# Altium footprint library 28Pins V01.PcbLib: 29 footprints (part 1 of 2)
Each footprint in its own frame and in the unit in brackets; x right, y up, seen from the top. Pads: shape width x height; smd on the part's side, far side on the other; paste and mask are expansions set on the pad; w line width, h text height; cw(c..) or ccw(c..) is an arc to the next point about the centre after c.
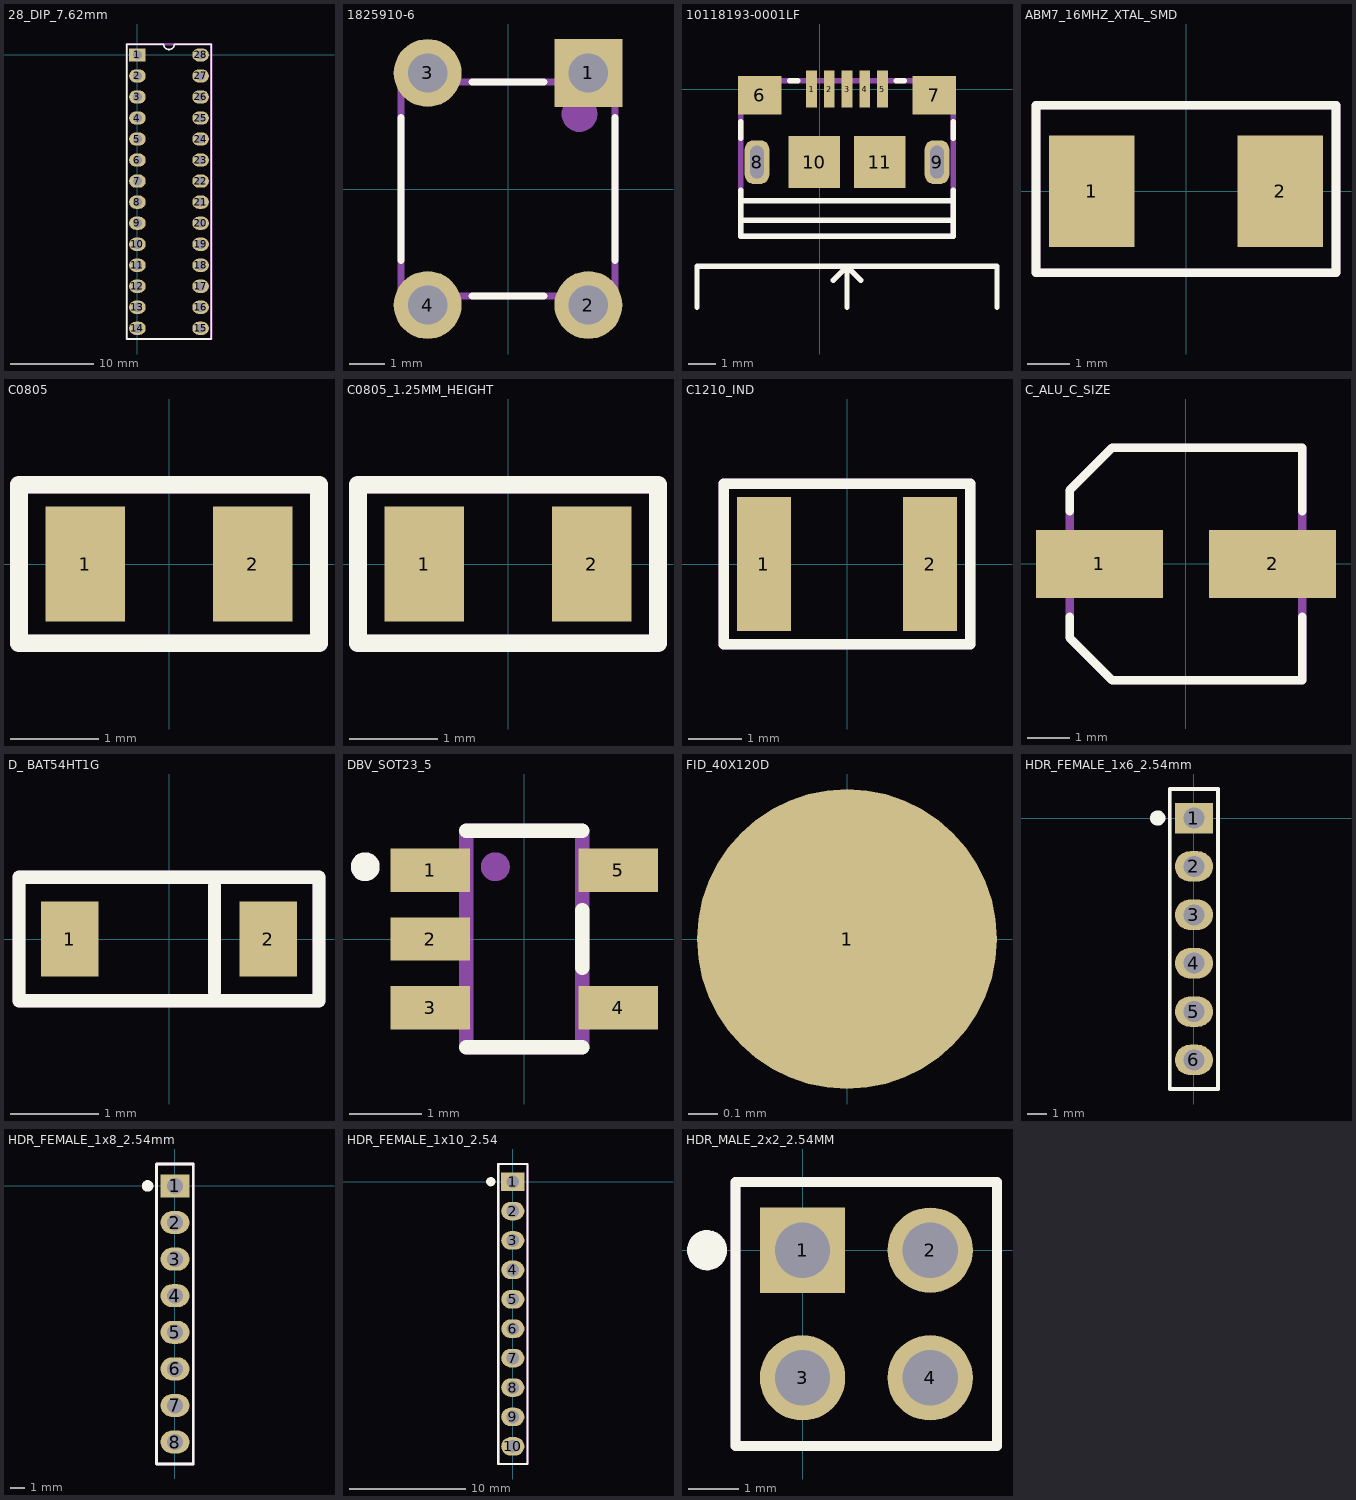
[diagram p0: the footprints below, top view; thin cyan lines are the x and y axes]

## 28-DIP_SCKT_2.54MM [mm]
3D body "dip_28_socket.stp": height 4.2, standoff -3.17, extent -1.24,-34.26 8.86,1.24

## 28_DIP_7.62mm [mm]
pads (28):
  rect 2x1.6 hole 1.1: 1(0,0)
  oval 2x1.6 hole 1.1: 2(0,-2.54) 3(0,-5.08) 4(0,-7.62) 5(0,-10.16) 6(0,-12.7) 7(0,-15.24) 8(0,-17.78) 9(0,-20.32) 10(0,-22.86) 11(0,-25.4) 12(0,-27.94) 13(0,-30.48) 14(0,-33.02) 15(7.62,-33.02) 16(7.62,-30.48) 17(7.62,-27.94) 18(7.62,-25.4) 19(7.62,-22.86) 20(7.62,-20.32) 21(7.62,-17.78) 22(7.62,-15.24) 23(7.62,-12.7) 24(7.62,-10.16) 25(7.62,-7.62) 26(7.62,-5.08) 27(7.62,-2.54) 28(7.62,0)
Top Overlay:
  lines w0.2: -1.29,-34.31 8.91,-34.31 8.91,1.29 4.445,1.29 cw(c3.81,1.29) 3.175,1.29 -1.29,1.29 -1.29,-34.31
Mechanical 29:
  circle w0.5: c0.01,-0.01 r0.2
  lines w0.254: -1.29,-34.31 -1.29,1.29 8.91,1.29 8.91,-34.31 -1.29,-34.31
  text "'.Designator'" at 5.11,-33.51 h3
3D body "dip_28.step": height 7.55, standoff 1.33, extent -0.09,-34.481 7.784,1.461

## 1825910-6 [mm]
pads (4):
  rect 1.9x1.9 hole 1.1: 1(2.25,3.25)
  round 1.9 hole 1.1: 2(2.25,-3.25) 3(-2.25,3.25) 4(-2.25,-3.25)
Top Overlay:
  lines w0.2: -3,-2 -3,2 ; -1,-3 1,-3 ; -1,3 1,3 ; 3,-2 3,2
Mechanical 29:
  circle w0.5: c2,2.1 r0.25
  lines w0.2: -3,-3 -3,3 3,3 3,-3 -3,-3
  text "'.Designator'" at -2.4,-0.9 h1.52
3D body "sw_1825910-6.step": height 5, standoff -3.51, extent -2.995,-3.898 2.995,3.9

## 10118193-0001LF [mm]
pads (11):
  rect 0.4x1.35 smd paste+0 mask+0.05: 1(-0.3,0) 2(0.35,0) 3(1,0) 4(1.65,0) 5(2.3,0)
  rect 1.6x1.4 smd paste+0 mask+0.05: 6(-2.2,-0.225) 7(4.2,-0.225)
  rrect70% 0.9x1.6 hole 0.5 slot 1.2 at 90 deg paste+0 mask+0.05: 8(-2.3,-2.675) 9(4.3,-2.675)
  rect 1.9x1.9 smd paste+0 mask+0.05: 10(-0.2,-2.675) 11(2.2,-2.675)
Top Overlay:
  lines w0.2: -4.5,-8 -4.5,-6.5 6.5,-6.5 6.5,-8 ; -2.9,-4.8 4.9,-4.8 ; -2.9,-4.1 4.9,-4.1 ; -2.9,-3.7 -2.9,-5.4 4.9,-5.4 4.9,-3.7 ; -2.9,-1.8 -2.9,-1.2 ; -1.1,0.3 -0.8,0.3 ; 0.5,-7 1,-6.5 ; 1,-8 1,-6.5 ; 1.5,-7 1,-6.5 ; 2.8,0.3 3.1,0.3 ; 4.9,-1.8 4.9,-1.2 ; 1,-6.5 1,-6.5
Mechanical 29:
  lines w0.2: -2.9,-5.4 4.9,-5.4 4.9,0.3 -2.9,0.3 -2.9,-5.4
  text "'.Designator'" at -2.6,-3.7 h1.52
3D body "usb_micro_female.STEP": height 2.81, standoff -0.79, extent -2.93,-5.41 4.93,0.3

## ABM7_16MHZ_XTAL_SMD [mm]
pads (2):
  rect 2x2.6 smd: 1(-2.2,0) 2(2.2,0)
Top Overlay:
  lines w0.2: -3.5,-1.9 3.5,-1.9 3.5,2 -3.5,2 -3.5,-1.9
Mechanical 29:
  lines w0.2: -3.5,-1.9 -3.5,2 3.5,2 3.5,-1.9 -3.5,-1.9
  text "'.Designator'" at -1.5,-0.5 h1
3D body "ABM7.STEP": height 1.41, standoff 0.01, extent -3,-1.705 2.994,1.8

## C0805 [mm]
pads (2):
  rect 0.9x1.3 smd: 1(-0.95,0) 2(0.95,0)
Top Overlay:
  lines w0.2: -1.7,-0.9 1.7,-0.9 1.7,0.9 -1.7,0.9 -1.7,-0.9
Mechanical 29:
  lines w0.2: -1.7,-0.9 1.7,-0.9 1.7,0.9 -1.7,0.9 -1.7,-0.9
  text "'.Designator'" at -1.7,-0.6 h1
3D body "c0805.STEP": height 1, standoff 0, extent -0.992,-0.625 1.008,0.625

## C0805_1.25MM_HEIGHT [mm]
pads (2):
  rect 0.9x1.3 smd: 1(-0.95,0) 2(0.95,0)
Top Overlay:
  lines w0.2: -1.7,-0.9 -1.7,0.9 1.7,0.9 1.7,-0.9 -1.7,-0.9
Mechanical 29:
  lines w0.2: -1.7,-0.9 -1.7,0.9 1.7,0.9 1.7,-0.9 -1.7,-0.9
  text "'.Designator'" at -1.7,-0.6 h1
3D body "c0805_1.25mm_height.STEP": height 1.45, standoff 0, extent -1,-0.625 1,0.625

## C1210_IND [mm]
pads (2):
  rect 1x2.5 smd: 1(-1.55,0) 2(1.55,0)
Top Overlay:
  lines w0.2: -2.3,-1.5 -2.3,1.5 2.3,1.5 2.3,-1.5 -2.3,-1.5
Mechanical 29:
  lines w0.2: -2.3,-1.5 2.3,-1.5 2.3,1.5 -2.3,1.5 -2.3,-1.5
  text "'.Designator'" at -2,-1 h1
3D body: height 2.7, standoff 0, extent -1.35,-1 1.35,1
3D body: height 2.7, standoff 0, extent 1.35,-1 1.65,1
3D body: height 2.7, standoff 0, extent -1.65,-1 -1.35,1

## C_ALU_C_SIZE [mm]
pads (2):
  rect 3x1.6 smd: 1(-2.05,0) 2(2.05,0)
Top Overlay:
  lines w0.2: -2.75,-1.25 -2.75,-1.75 -1.75,-2.75 2.75,-2.75 2.75,-1.25 ; -2.75,1.25 -2.75,1.75 -1.75,2.75 2.75,2.75 2.75,1.25
Mechanical 29:
  circle w0.5: c-2,0 r0.25
  lines w0.2: -2.75,-1.75 -2.75,1.75 -1.75,2.75 2.75,2.75 2.75,-2.75 -1.75,-2.75 -2.75,-1.75
  text "'.Designator'" at -2.5,-2 h1
3D body "cap_alu_c.step": height 5.41, standoff -0.01, extent -2.95,-2.65 2.95,2.65

## D_ BAT54HT1G [mm]
pads (2):
  rect 0.65x0.85 smd: 1(-1.125,0) 2(1.125,0)
Top Overlay:
  lines w0.15: 0.516,-0.6 0.516,0.6 ; -1.7,-0.7 1.7,-0.7 1.7,0.7 -1.7,0.7 -1.7,-0.7
Mechanical 29:
  lines w0.15: 0.516,-0.6 0.516,0.6 ; -1.7,-0.7 -1.7,0.7 1.7,0.7 1.7,-0.7 -1.7,-0.7
  text "'.Designator'" at -1.778,-0.508 h1
3D body "SOD323.step": height 1.1, standoff 0, extent -1.3,-0.675 1.3,0.675

## DBV_SOT23_5 [mm]
pads (5):
  rect 1.1x0.6 smd mask+0.09: 1(-1.3,0.95) 2(-1.3,0) 3(-1.3,-0.95) 4(1.3,-0.95) 5(1.3,0.95)
Top Overlay:
  circle w0.2: c-2.2,1 r0.1
  lines w0.2: -0.8,-1.5 0.8,-1.5 ; -0.8,1.5 0.8,1.5 ; 0.8,-0.4 0.8,0.4
Mechanical 29:
  circle w0.2: c-0.4,1 r0.1
  lines w0.2: -0.8,-1.5 -0.8,1.5 0.8,1.5 0.8,-1.5 -0.8,-1.5
  text "'.Designator'" at -1,-1.2 h1
3D body "TPS79333DBVR.step": height 1.6, standoff -0.02, extent -1.527,-1.525 1.5,1.525

## FID_40X120D [mil]
pads (1):
  round 40 smd paste-1574.8 mask+40: 1(0,0)

## HDR_FEMALE_1x6_2.54mm [mm]
pads (6):
  rect 2x1.6 hole 1.1: 1(0,0)
  oval 2x1.6 hole 1.1: 2(0,-2.54) 3(0,-5.08) 4(0,-7.62) 5(0,-10.16) 6(0,-12.7)
Top Overlay:
  circle w0.4: c-1.9,0 r0.2
  lines w0.2: -1.27,-14.224 1.27,-14.224 1.27,1.524 -1.27,1.524 -1.27,-14.224
Mechanical 29:
  circle w0.4: c0,0 r0.2
  lines w0.2: -1.27,-14.224 1.27,-14.224 1.27,1.524 -1.27,1.524 -1.27,-14.224
  text "'.Designator'" at 0.762,-12.446 h1.5
3D body "hdr_female_1x6_2.54.stp": height 8.31, standoff -3.19, extent -1.23,-14.17 1.27,1.47

## HDR_FEMALE_1x8_2.54mm [mm]
pads (8):
  rect 2x1.6 hole 1.1: 1(0,0)
  oval 2x1.6 hole 1.1: 2(0,-2.54) 3(0,-5.08) 4(0,-7.62) 5(0,-10.16) 6(0,-12.7) 7(0,-15.24) 8(0,-17.78)
Top Overlay:
  circle w0.4: c-1.9,0 r0.2
  lines w0.2: -1.27,-19.304 -1.27,1.524 1.27,1.524 1.27,-19.304 -1.27,-19.304
Mechanical 29:
  circle w0.4: c0,0 r0.2
  lines w0.2: -1.27,-19.304 -1.27,1.524 1.27,1.524 1.27,-19.304 -1.27,-19.304
  text "'.Designator'" at 0.508,-18.034 h1.5
3D body "hdr_female_1x8_2.54.stp": height 8.31, standoff -3.19, extent -1.27,-19.25 1.23,1.47

## HDR_FEMALE_1x10_2.54 [mm]
pads (10):
  rect 2x1.6 hole 1.1: 1(0,0)
  oval 2x1.6 hole 1.1: 2(0,-2.54) 3(0,-5.08) 4(0,-7.62) 5(0,-10.16) 6(0,-12.7) 7(0,-15.24) 8(0,-17.78) 9(0,-20.32) 10(0,-22.86)
Top Overlay:
  circle w0.4: c-1.9,0 r0.2
  lines w0.2: -1.27,-24.384 -1.27,1.524 1.27,1.524 1.27,-24.384 -1.27,-24.384
Mechanical 29:
  circle w0.4: c0,0 r0.2
  lines w0.2: -1.27,-24.384 -1.27,1.524 1.27,1.524 1.27,-24.384 -1.27,-24.384
  text "'.Designator'" at 0.762,-19.05 h1.5
3D body "hdr_female_1x10_2.54.stp": height 8.31, standoff -3.19, extent -1.25,-24.33 1.25,1.47

## HDR_MALE_2x2_2.54MM [mm]
pads (4):
  rect 1.7x1.7 hole 1.1: 1(0,0)
  round 1.7 hole 1.1: 2(2.54,0) 3(0,-2.54) 4(2.54,-2.54)
Top Overlay:
  circle w0.4: c-1.9,0 r0.2
  lines w0.2: -1.33,-3.9 -1.33,1.36 3.87,1.36 3.87,-3.9 -1.33,-3.9
Mechanical 29:
  circle w0.4: c0,0 r0.2
  lines w0.2: -1.33,-3.9 -1.33,1.36 3.87,1.36 3.87,-3.9 -1.33,-3.9
  text "'.Designator'" at 1.7,-3.7 h1.5
3D body "hdr_male_2x2_2.54.step": height 8.89, standoff -5.08, extent -1.27,-3.81 3.81,1.27